# Altium schematic symbol library 53426-0210.SchLib: 1 symbol
Pins are listed as number, name and electrical type; pins without a type are passive.

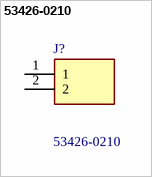
[diagram p0: symbol 53426-0210]

## 53426-0210
designator J?
Headers & Wire Housings 2.50MM 2P RA HDR FRCTN POS LOCK; Manufacturer_Name: Molex; Geometry.Height: 6.9mm; Mouser Part Number: 538-53426-0210; Mouser Price/Stock: https://www.mouser.co.uk/ProductDetail/Molex/53426-0210?qs=9BfFgGvh7CeGd9pd%252BU8okg%3D%3D; Manufacturer_Part_Number: 53426-0210; Datasheet Link: https://www.molex.com/pdm_docs/sd/534260210_sd.pdf
footprint 534260210
pins: 1, 2